# Altium schematic symbol library Socket 5.SchLib: 1 symbol
Pins are listed as number, name and electrical type; pins without a type are passive.

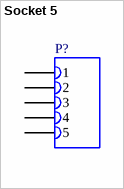
[diagram p0: symbol Socket 5]

## Socket 5
designator P?
Socket (Female header), 5-Pin
pins: 1, 2, 3, 4, 5